# Altium integrated library Vishay Vitramon Ceramic Dipped Capacitor.IntLib: 3117 symbols (part 27 of 35)
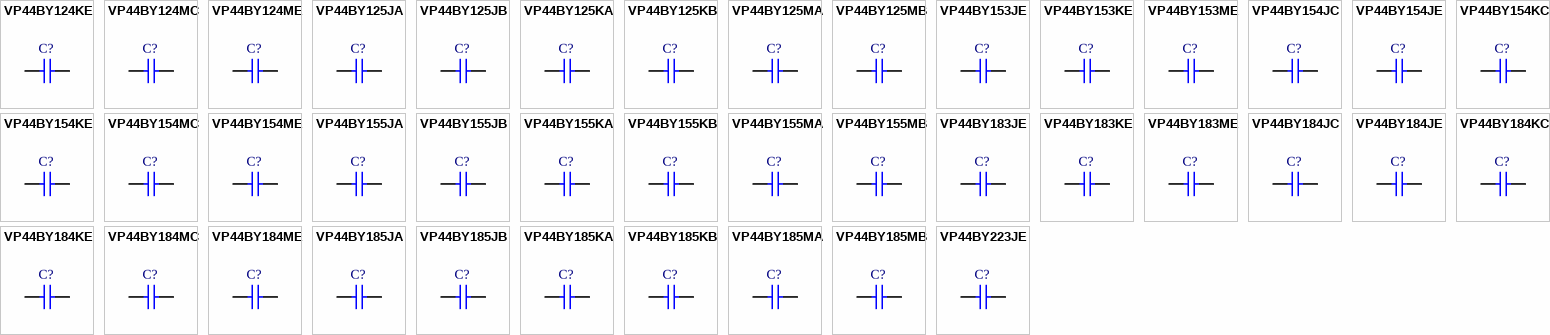
[diagram p103: symbols VP44BY124KE to VP44BY223JE]

## VP44BY153KE
designator C?
Dipped Radial Multilayer Ceramic Capacitor X7R: 15nF, 500V; Published: 17-Dec-2003; DatasheetDocument: 2-Jan-2002; PackageDocument: 2-Jan-2002; PackageReference: VP44-3.2; Publisher: Altium Limited; ComponentLink1Description: Manufacturer Link; ComponentLink1URL: http://www.vishay.com/; Value: 15nF
footprint VP44-3.2 (Capacitor, Ceramic, Thru-Hole, Dipped Radial; Body 7.6 x 3.2 mm (WxT) Pin Spacing 5.08 mm (typ))
simulation model CAP (Capacitor)
signal-integrity model Cap
pins: 1, 2

## VP44BY153ME
designator C?
Dipped Radial Multilayer Ceramic Capacitor X7R: 15nF, 500V; Published: 17-Dec-2003; DatasheetDocument: 2-Jan-2002; PackageDocument: 2-Jan-2002; PackageReference: VP44-3.2; Publisher: Altium Limited; ComponentLink1Description: Manufacturer Link; ComponentLink1URL: http://www.vishay.com/; Value: 15nF
footprint VP44-3.2 (Capacitor, Ceramic, Thru-Hole, Dipped Radial; Body 7.6 x 3.2 mm (WxT) Pin Spacing 5.08 mm (typ))
simulation model CAP (Capacitor)
signal-integrity model Cap
pins: 1, 2

## VP44BY154JC
designator C?
Dipped Radial Multilayer Ceramic Capacitor X7R: 150nF, 200V; Published: 17-Dec-2003; DatasheetDocument: 2-Jan-2002; PackageDocument: 2-Jan-2002; PackageReference: VP44-3.2; Publisher: Altium Limited; ComponentLink1Description: Manufacturer Link; ComponentLink1URL: http://www.vishay.com/; Value: 150nF
footprint VP44-3.2 (Capacitor, Ceramic, Thru-Hole, Dipped Radial; Body 7.6 x 3.2 mm (WxT) Pin Spacing 5.08 mm (typ))
simulation model CAP (Capacitor)
signal-integrity model Cap
pins: 1, 2

## VP44BY154JE
designator C?
Dipped Radial Multilayer Ceramic Capacitor X7R: 150nF, 500V; Published: 17-Dec-2003; DatasheetDocument: 2-Jan-2002; PackageDocument: 2-Jan-2002; PackageReference: VP44-5.0; Publisher: Altium Limited; ComponentLink1Description: Manufacturer Link; ComponentLink1URL: http://www.vishay.com/; Value: 150nF
footprint VP44-5.0 (Capacitor, Ceramic, Thru-Hole, Dipped Radial; Body 7.6 x 5 mm (WxT) Pin Spacing 5.08 mm (typ))
simulation model CAP (Capacitor)
signal-integrity model Cap
pins: 1, 2

## VP44BY154KC
designator C?
Dipped Radial Multilayer Ceramic Capacitor X7R: 150nF, 200V; Published: 17-Dec-2003; DatasheetDocument: 2-Jan-2002; PackageDocument: 2-Jan-2002; PackageReference: VP44-3.2; Publisher: Altium Limited; ComponentLink1Description: Manufacturer Link; ComponentLink1URL: http://www.vishay.com/; Value: 150nF
footprint VP44-3.2 (Capacitor, Ceramic, Thru-Hole, Dipped Radial; Body 7.6 x 3.2 mm (WxT) Pin Spacing 5.08 mm (typ))
simulation model CAP (Capacitor)
signal-integrity model Cap
pins: 1, 2

## VP44BY154KE
designator C?
Dipped Radial Multilayer Ceramic Capacitor X7R: 150nF, 500V; Published: 17-Dec-2003; DatasheetDocument: 2-Jan-2002; PackageDocument: 2-Jan-2002; PackageReference: VP44-5.0; Publisher: Altium Limited; ComponentLink1Description: Manufacturer Link; ComponentLink1URL: http://www.vishay.com/; Value: 150nF
footprint VP44-5.0 (Capacitor, Ceramic, Thru-Hole, Dipped Radial; Body 7.6 x 5 mm (WxT) Pin Spacing 5.08 mm (typ))
simulation model CAP (Capacitor)
signal-integrity model Cap
pins: 1, 2

## VP44BY154MC
designator C?
Dipped Radial Multilayer Ceramic Capacitor X7R: 150nF, 200V; Published: 17-Dec-2003; DatasheetDocument: 2-Jan-2002; PackageDocument: 2-Jan-2002; PackageReference: VP44-3.2; Publisher: Altium Limited; ComponentLink1Description: Manufacturer Link; ComponentLink1URL: http://www.vishay.com/; Value: 150nF
footprint VP44-3.2 (Capacitor, Ceramic, Thru-Hole, Dipped Radial; Body 7.6 x 3.2 mm (WxT) Pin Spacing 5.08 mm (typ))
simulation model CAP (Capacitor)
signal-integrity model Cap
pins: 1, 2

## VP44BY154ME
designator C?
Dipped Radial Multilayer Ceramic Capacitor X7R: 150nF, 500V; Published: 17-Dec-2003; DatasheetDocument: 2-Jan-2002; PackageDocument: 2-Jan-2002; PackageReference: VP44-5.0; Publisher: Altium Limited; ComponentLink1Description: Manufacturer Link; ComponentLink1URL: http://www.vishay.com/; Value: 150nF
footprint VP44-5.0 (Capacitor, Ceramic, Thru-Hole, Dipped Radial; Body 7.6 x 5 mm (WxT) Pin Spacing 5.08 mm (typ))
simulation model CAP (Capacitor)
signal-integrity model Cap
pins: 1, 2

## VP44BY155JA
designator C?
Dipped Radial Multilayer Ceramic Capacitor X7R: 1.5uF, 50/63V; Published: 17-Dec-2003; DatasheetDocument: 4-Feb-2002; PackageDocument: 4-Feb-2002; PackageReference: VP44-5.0; Publisher: Altium Limited; ComponentLink1Description: Manufacturer Link; ComponentLink1URL: http://www.vishay.com/; Value: 1.5uF
footprint VP44-5.0 (Capacitor, Ceramic, Thru-Hole, Dipped Radial; Body 7.6 x 5 mm (WxT) Pin Spacing 5.08 mm (typ))
simulation model CAP (Capacitor)
signal-integrity model Cap
pins: 1, 2

## VP44BY155JB
designator C?
Dipped Radial Multilayer Ceramic Capacitor X7R: 1.5uF, 100V; Published: 17-Dec-2003; DatasheetDocument: 4-Feb-2002; PackageDocument: 4-Feb-2002; PackageReference: VP44-5.0; Publisher: Altium Limited; ComponentLink1Description: Manufacturer Link; ComponentLink1URL: http://www.vishay.com/; Value: 1.5uF
footprint VP44-5.0 (Capacitor, Ceramic, Thru-Hole, Dipped Radial; Body 7.6 x 5 mm (WxT) Pin Spacing 5.08 mm (typ))
simulation model CAP (Capacitor)
signal-integrity model Cap
pins: 1, 2

## VP44BY155KA
designator C?
Dipped Radial Multilayer Ceramic Capacitor X7R: 1.5uF, 50/63V; Published: 17-Dec-2003; DatasheetDocument: 4-Feb-2002; PackageDocument: 4-Feb-2002; PackageReference: VP44-5.0; Publisher: Altium Limited; ComponentLink1Description: Manufacturer Link; ComponentLink1URL: http://www.vishay.com/; Value: 1.5uF
footprint VP44-5.0 (Capacitor, Ceramic, Thru-Hole, Dipped Radial; Body 7.6 x 5 mm (WxT) Pin Spacing 5.08 mm (typ))
simulation model CAP (Capacitor)
signal-integrity model Cap
pins: 1, 2

## VP44BY155KB
designator C?
Dipped Radial Multilayer Ceramic Capacitor X7R: 1.5uF, 100V; Published: 17-Dec-2003; DatasheetDocument: 4-Feb-2002; PackageDocument: 4-Feb-2002; PackageReference: VP44-5.0; Publisher: Altium Limited; ComponentLink1Description: Manufacturer Link; ComponentLink1URL: http://www.vishay.com/; Value: 1.5uF
footprint VP44-5.0 (Capacitor, Ceramic, Thru-Hole, Dipped Radial; Body 7.6 x 5 mm (WxT) Pin Spacing 5.08 mm (typ))
simulation model CAP (Capacitor)
signal-integrity model Cap
pins: 1, 2

## VP44BY155MA
designator C?
Dipped Radial Multilayer Ceramic Capacitor X7R: 1.5uF, 50/63V; Published: 17-Dec-2003; DatasheetDocument: 4-Feb-2002; PackageDocument: 4-Feb-2002; PackageReference: VP44-5.0; Publisher: Altium Limited; ComponentLink1Description: Manufacturer Link; ComponentLink1URL: http://www.vishay.com/; Value: 1.5uF
footprint VP44-5.0 (Capacitor, Ceramic, Thru-Hole, Dipped Radial; Body 7.6 x 5 mm (WxT) Pin Spacing 5.08 mm (typ))
simulation model CAP (Capacitor)
signal-integrity model Cap
pins: 1, 2

## VP44BY155MB
designator C?
Dipped Radial Multilayer Ceramic Capacitor X7R: 1.5uF, 100V; Published: 17-Dec-2003; DatasheetDocument: 4-Feb-2002; PackageDocument: 4-Feb-2002; PackageReference: VP44-5.0; Publisher: Altium Limited; ComponentLink1Description: Manufacturer Link; ComponentLink1URL: http://www.vishay.com/; Value: 1.5uF
footprint VP44-5.0 (Capacitor, Ceramic, Thru-Hole, Dipped Radial; Body 7.6 x 5 mm (WxT) Pin Spacing 5.08 mm (typ))
simulation model CAP (Capacitor)
signal-integrity model Cap
pins: 1, 2

## VP44BY183JE
designator C?
Dipped Radial Multilayer Ceramic Capacitor X7R: 18nF, 500V; Published: 17-Dec-2003; DatasheetDocument: 2-Jan-2002; PackageDocument: 2-Jan-2002; PackageReference: VP44-3.2; Publisher: Altium Limited; ComponentLink1Description: Manufacturer Link; ComponentLink1URL: http://www.vishay.com/; Value: 18nF
footprint VP44-3.2 (Capacitor, Ceramic, Thru-Hole, Dipped Radial; Body 7.6 x 3.2 mm (WxT) Pin Spacing 5.08 mm (typ))
simulation model CAP (Capacitor)
signal-integrity model Cap
pins: 1, 2

## VP44BY183KE
designator C?
Dipped Radial Multilayer Ceramic Capacitor X7R: 18nF, 500V; Published: 17-Dec-2003; DatasheetDocument: 2-Jan-2002; PackageDocument: 2-Jan-2002; PackageReference: VP44-3.2; Publisher: Altium Limited; ComponentLink1Description: Manufacturer Link; ComponentLink1URL: http://www.vishay.com/; Value: 18nF
footprint VP44-3.2 (Capacitor, Ceramic, Thru-Hole, Dipped Radial; Body 7.6 x 3.2 mm (WxT) Pin Spacing 5.08 mm (typ))
simulation model CAP (Capacitor)
signal-integrity model Cap
pins: 1, 2

## VP44BY183ME
designator C?
Dipped Radial Multilayer Ceramic Capacitor X7R: 18nF, 500V; Published: 17-Dec-2003; DatasheetDocument: 2-Jan-2002; PackageDocument: 2-Jan-2002; PackageReference: VP44-3.2; Publisher: Altium Limited; ComponentLink1Description: Manufacturer Link; ComponentLink1URL: http://www.vishay.com/; Value: 18nF
footprint VP44-3.2 (Capacitor, Ceramic, Thru-Hole, Dipped Radial; Body 7.6 x 3.2 mm (WxT) Pin Spacing 5.08 mm (typ))
simulation model CAP (Capacitor)
signal-integrity model Cap
pins: 1, 2

## VP44BY184JC
designator C?
Dipped Radial Multilayer Ceramic Capacitor X7R: 180nF, 200V; Published: 17-Dec-2003; DatasheetDocument: 2-Jan-2002; PackageDocument: 2-Jan-2002; PackageReference: VP44-3.2; Publisher: Altium Limited; ComponentLink1Description: Manufacturer Link; ComponentLink1URL: http://www.vishay.com/; Value: 180nF
footprint VP44-3.2 (Capacitor, Ceramic, Thru-Hole, Dipped Radial; Body 7.6 x 3.2 mm (WxT) Pin Spacing 5.08 mm (typ))
simulation model CAP (Capacitor)
signal-integrity model Cap
pins: 1, 2

## VP44BY184JE
designator C?
Dipped Radial Multilayer Ceramic Capacitor X7R: 180nF, 500V; Published: 17-Dec-2003; DatasheetDocument: 2-Jan-2002; PackageDocument: 2-Jan-2002; PackageReference: VP44-5.0; Publisher: Altium Limited; ComponentLink1Description: Manufacturer Link; ComponentLink1URL: http://www.vishay.com/; Value: 180nF
footprint VP44-5.0 (Capacitor, Ceramic, Thru-Hole, Dipped Radial; Body 7.6 x 5 mm (WxT) Pin Spacing 5.08 mm (typ))
simulation model CAP (Capacitor)
signal-integrity model Cap
pins: 1, 2

## VP44BY184KC
designator C?
Dipped Radial Multilayer Ceramic Capacitor X7R: 180nF, 200V; Published: 17-Dec-2003; DatasheetDocument: 2-Jan-2002; PackageDocument: 2-Jan-2002; PackageReference: VP44-3.2; Publisher: Altium Limited; ComponentLink1Description: Manufacturer Link; ComponentLink1URL: http://www.vishay.com/; Value: 180nF
footprint VP44-3.2 (Capacitor, Ceramic, Thru-Hole, Dipped Radial; Body 7.6 x 3.2 mm (WxT) Pin Spacing 5.08 mm (typ))
simulation model CAP (Capacitor)
signal-integrity model Cap
pins: 1, 2

## VP44BY184KE
designator C?
Dipped Radial Multilayer Ceramic Capacitor X7R: 180nF, 500V; Published: 17-Dec-2003; DatasheetDocument: 2-Jan-2002; PackageDocument: 2-Jan-2002; PackageReference: VP44-5.0; Publisher: Altium Limited; ComponentLink1Description: Manufacturer Link; ComponentLink1URL: http://www.vishay.com/; Value: 180nF
footprint VP44-5.0 (Capacitor, Ceramic, Thru-Hole, Dipped Radial; Body 7.6 x 5 mm (WxT) Pin Spacing 5.08 mm (typ))
simulation model CAP (Capacitor)
signal-integrity model Cap
pins: 1, 2

## VP44BY184MC
designator C?
Dipped Radial Multilayer Ceramic Capacitor X7R: 180nF, 200V; Published: 17-Dec-2003; DatasheetDocument: 2-Jan-2002; PackageDocument: 2-Jan-2002; PackageReference: VP44-3.2; Publisher: Altium Limited; ComponentLink1Description: Manufacturer Link; ComponentLink1URL: http://www.vishay.com/; Value: 180nF
footprint VP44-3.2 (Capacitor, Ceramic, Thru-Hole, Dipped Radial; Body 7.6 x 3.2 mm (WxT) Pin Spacing 5.08 mm (typ))
simulation model CAP (Capacitor)
signal-integrity model Cap
pins: 1, 2

## VP44BY184ME
designator C?
Dipped Radial Multilayer Ceramic Capacitor X7R: 180nF, 500V; Published: 17-Dec-2003; DatasheetDocument: 2-Jan-2002; PackageDocument: 2-Jan-2002; PackageReference: VP44-5.0; Publisher: Altium Limited; ComponentLink1Description: Manufacturer Link; ComponentLink1URL: http://www.vishay.com/; Value: 180nF
footprint VP44-5.0 (Capacitor, Ceramic, Thru-Hole, Dipped Radial; Body 7.6 x 5 mm (WxT) Pin Spacing 5.08 mm (typ))
simulation model CAP (Capacitor)
signal-integrity model Cap
pins: 1, 2

## VP44BY185JA
designator C?
Dipped Radial Multilayer Ceramic Capacitor X7R: 1.8uF, 50/63V; Published: 17-Dec-2003; DatasheetDocument: 4-Feb-2002; PackageDocument: 4-Feb-2002; PackageReference: VP44-5.0; Publisher: Altium Limited; ComponentLink1Description: Manufacturer Link; ComponentLink1URL: http://www.vishay.com/; Value: 1.8uF
footprint VP44-5.0 (Capacitor, Ceramic, Thru-Hole, Dipped Radial; Body 7.6 x 5 mm (WxT) Pin Spacing 5.08 mm (typ))
simulation model CAP (Capacitor)
signal-integrity model Cap
pins: 1, 2

## VP44BY185JB
designator C?
Dipped Radial Multilayer Ceramic Capacitor X7R: 1.8uF, 100V; Published: 17-Dec-2003; DatasheetDocument: 4-Feb-2002; PackageDocument: 4-Feb-2002; PackageReference: VP44-5.0; Publisher: Altium Limited; ComponentLink1Description: Manufacturer Link; ComponentLink1URL: http://www.vishay.com/; Value: 1.8uF
footprint VP44-5.0 (Capacitor, Ceramic, Thru-Hole, Dipped Radial; Body 7.6 x 5 mm (WxT) Pin Spacing 5.08 mm (typ))
simulation model CAP (Capacitor)
signal-integrity model Cap
pins: 1, 2

## VP44BY185KA
designator C?
Dipped Radial Multilayer Ceramic Capacitor X7R: 1.8uF, 50/63V; Published: 17-Dec-2003; DatasheetDocument: 4-Feb-2002; PackageDocument: 4-Feb-2002; PackageReference: VP44-5.0; Publisher: Altium Limited; ComponentLink1Description: Manufacturer Link; ComponentLink1URL: http://www.vishay.com/; Value: 1.8uF
footprint VP44-5.0 (Capacitor, Ceramic, Thru-Hole, Dipped Radial; Body 7.6 x 5 mm (WxT) Pin Spacing 5.08 mm (typ))
simulation model CAP (Capacitor)
signal-integrity model Cap
pins: 1, 2

## VP44BY185KB
designator C?
Dipped Radial Multilayer Ceramic Capacitor X7R: 1.8uF, 100V; Published: 17-Dec-2003; DatasheetDocument: 4-Feb-2002; PackageDocument: 4-Feb-2002; PackageReference: VP44-5.0; Publisher: Altium Limited; ComponentLink1Description: Manufacturer Link; ComponentLink1URL: http://www.vishay.com/; Value: 1.8uF
footprint VP44-5.0 (Capacitor, Ceramic, Thru-Hole, Dipped Radial; Body 7.6 x 5 mm (WxT) Pin Spacing 5.08 mm (typ))
simulation model CAP (Capacitor)
signal-integrity model Cap
pins: 1, 2

## VP44BY185MA
designator C?
Dipped Radial Multilayer Ceramic Capacitor X7R: 1.8uF, 50/63V; Published: 17-Dec-2003; DatasheetDocument: 4-Feb-2002; PackageDocument: 4-Feb-2002; PackageReference: VP44-5.0; Publisher: Altium Limited; ComponentLink1Description: Manufacturer Link; ComponentLink1URL: http://www.vishay.com/; Value: 1.8uF
footprint VP44-5.0 (Capacitor, Ceramic, Thru-Hole, Dipped Radial; Body 7.6 x 5 mm (WxT) Pin Spacing 5.08 mm (typ))
simulation model CAP (Capacitor)
signal-integrity model Cap
pins: 1, 2

## VP44BY185MB
designator C?
Dipped Radial Multilayer Ceramic Capacitor X7R: 1.8uF, 100V; Published: 17-Dec-2003; DatasheetDocument: 4-Feb-2002; PackageDocument: 4-Feb-2002; PackageReference: VP44-5.0; Publisher: Altium Limited; ComponentLink1Description: Manufacturer Link; ComponentLink1URL: http://www.vishay.com/; Value: 1.8uF
footprint VP44-5.0 (Capacitor, Ceramic, Thru-Hole, Dipped Radial; Body 7.6 x 5 mm (WxT) Pin Spacing 5.08 mm (typ))
simulation model CAP (Capacitor)
signal-integrity model Cap
pins: 1, 2

## VP44BY223JE
designator C?
Dipped Radial Multilayer Ceramic Capacitor X7R: 22nF, 500V; Published: 17-Dec-2003; DatasheetDocument: 2-Jan-2002; PackageDocument: 2-Jan-2002; PackageReference: VP44-3.2; Publisher: Altium Limited; ComponentLink1Description: Manufacturer Link; ComponentLink1URL: http://www.vishay.com/; Value: 22nF
footprint VP44-3.2 (Capacitor, Ceramic, Thru-Hole, Dipped Radial; Body 7.6 x 3.2 mm (WxT) Pin Spacing 5.08 mm (typ))
simulation model CAP (Capacitor)
signal-integrity model Cap
pins: 1, 2

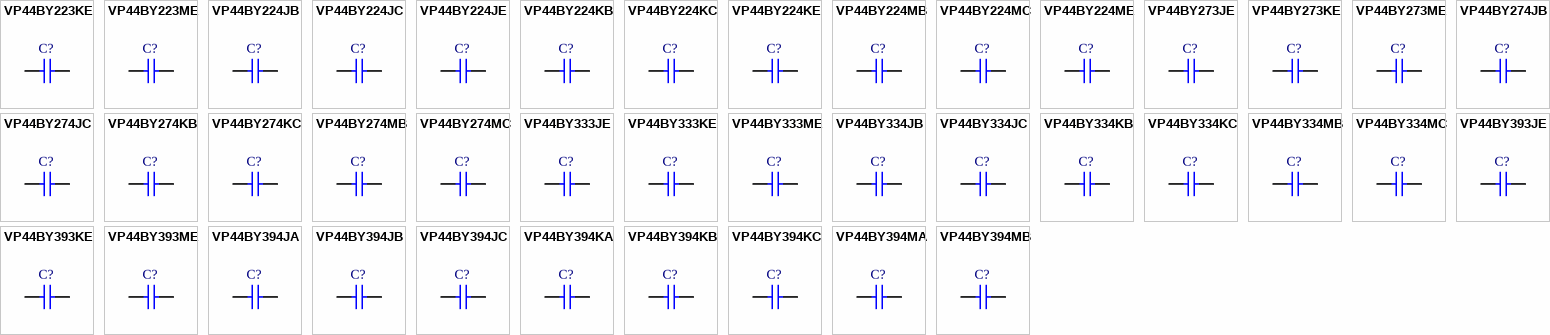
[diagram p59: symbols VP44BY223KE to VP44BY394MB]

## VP44BY223KE
designator C?
Dipped Radial Multilayer Ceramic Capacitor X7R: 22nF, 500V; Published: 17-Dec-2003; DatasheetDocument: 2-Jan-2002; PackageDocument: 2-Jan-2002; PackageReference: VP44-3.2; Publisher: Altium Limited; ComponentLink1Description: Manufacturer Link; ComponentLink1URL: http://www.vishay.com/; Value: 22nF
footprint VP44-3.2 (Capacitor, Ceramic, Thru-Hole, Dipped Radial; Body 7.6 x 3.2 mm (WxT) Pin Spacing 5.08 mm (typ))
simulation model CAP (Capacitor)
signal-integrity model Cap
pins: 1, 2

## VP44BY223ME
designator C?
Dipped Radial Multilayer Ceramic Capacitor X7R: 22nF, 500V; Published: 17-Dec-2003; DatasheetDocument: 2-Jan-2002; PackageDocument: 2-Jan-2002; PackageReference: VP44-3.2; Publisher: Altium Limited; ComponentLink1Description: Manufacturer Link; ComponentLink1URL: http://www.vishay.com/; Value: 22nF
footprint VP44-3.2 (Capacitor, Ceramic, Thru-Hole, Dipped Radial; Body 7.6 x 3.2 mm (WxT) Pin Spacing 5.08 mm (typ))
simulation model CAP (Capacitor)
signal-integrity model Cap
pins: 1, 2

## VP44BY224JB
designator C?
Dipped Radial Multilayer Ceramic Capacitor X7R: 220nF, 100V; Published: 17-Dec-2003; DatasheetDocument: 4-Feb-2002; PackageDocument: 4-Feb-2002; PackageReference: VP44-2.5; Publisher: Altium Limited; ComponentLink1Description: Manufacturer Link; ComponentLink1URL: http://www.vishay.com/; Value: 220nF
footprint VP44-2.5 (Capacitor, Ceramic, Thru-Hole, Dipped Radial; Body 7.6 x 2.5 mm (WxT) Pin Spacing 5.08 mm (typ))
simulation model CAP (Capacitor)
signal-integrity model Cap
pins: 1, 2

## VP44BY224JC
designator C?
Dipped Radial Multilayer Ceramic Capacitor X7R: 220nF, 200V; Published: 17-Dec-2003; DatasheetDocument: 2-Jan-2002; PackageDocument: 2-Jan-2002; PackageReference: VP44-3.2; Publisher: Altium Limited; ComponentLink1Description: Manufacturer Link; ComponentLink1URL: http://www.vishay.com/; Value: 220nF
footprint VP44-3.2 (Capacitor, Ceramic, Thru-Hole, Dipped Radial; Body 7.6 x 3.2 mm (WxT) Pin Spacing 5.08 mm (typ))
simulation model CAP (Capacitor)
signal-integrity model Cap
pins: 1, 2

## VP44BY224JE
designator C?
Dipped Radial Multilayer Ceramic Capacitor X7R: 220nF, 500V; Published: 17-Dec-2003; DatasheetDocument: 2-Jan-2002; PackageDocument: 2-Jan-2002; PackageReference: VP44-5.0; Publisher: Altium Limited; ComponentLink1Description: Manufacturer Link; ComponentLink1URL: http://www.vishay.com/; Value: 220nF
footprint VP44-5.0 (Capacitor, Ceramic, Thru-Hole, Dipped Radial; Body 7.6 x 5 mm (WxT) Pin Spacing 5.08 mm (typ))
simulation model CAP (Capacitor)
signal-integrity model Cap
pins: 1, 2

## VP44BY224KB
designator C?
Dipped Radial Multilayer Ceramic Capacitor X7R: 220nF, 100V; Published: 17-Dec-2003; DatasheetDocument: 4-Feb-2002; PackageDocument: 4-Feb-2002; PackageReference: VP44-2.5; Publisher: Altium Limited; ComponentLink1Description: Manufacturer Link; ComponentLink1URL: http://www.vishay.com/; Value: 220nF
footprint VP44-2.5 (Capacitor, Ceramic, Thru-Hole, Dipped Radial; Body 7.6 x 2.5 mm (WxT) Pin Spacing 5.08 mm (typ))
simulation model CAP (Capacitor)
signal-integrity model Cap
pins: 1, 2

## VP44BY224KC
designator C?
Dipped Radial Multilayer Ceramic Capacitor X7R: 220nF, 200V; Published: 17-Dec-2003; DatasheetDocument: 2-Jan-2002; PackageDocument: 2-Jan-2002; PackageReference: VP44-3.2; Publisher: Altium Limited; ComponentLink1Description: Manufacturer Link; ComponentLink1URL: http://www.vishay.com/; Value: 220nF
footprint VP44-3.2 (Capacitor, Ceramic, Thru-Hole, Dipped Radial; Body 7.6 x 3.2 mm (WxT) Pin Spacing 5.08 mm (typ))
simulation model CAP (Capacitor)
signal-integrity model Cap
pins: 1, 2

## VP44BY224KE
designator C?
Dipped Radial Multilayer Ceramic Capacitor X7R: 220nF, 500V; Published: 17-Dec-2003; DatasheetDocument: 2-Jan-2002; PackageDocument: 2-Jan-2002; PackageReference: VP44-5.0; Publisher: Altium Limited; ComponentLink1Description: Manufacturer Link; ComponentLink1URL: http://www.vishay.com/; Value: 220nF
footprint VP44-5.0 (Capacitor, Ceramic, Thru-Hole, Dipped Radial; Body 7.6 x 5 mm (WxT) Pin Spacing 5.08 mm (typ))
simulation model CAP (Capacitor)
signal-integrity model Cap
pins: 1, 2

## VP44BY224MB
designator C?
Dipped Radial Multilayer Ceramic Capacitor X7R: 220nF, 100V; Published: 17-Dec-2003; DatasheetDocument: 4-Feb-2002; PackageDocument: 4-Feb-2002; PackageReference: VP44-2.5; Publisher: Altium Limited; ComponentLink1Description: Manufacturer Link; ComponentLink1URL: http://www.vishay.com/; Value: 220nF
footprint VP44-2.5 (Capacitor, Ceramic, Thru-Hole, Dipped Radial; Body 7.6 x 2.5 mm (WxT) Pin Spacing 5.08 mm (typ))
simulation model CAP (Capacitor)
signal-integrity model Cap
pins: 1, 2

## VP44BY224MC
designator C?
Dipped Radial Multilayer Ceramic Capacitor X7R: 220nF, 200V; Published: 17-Dec-2003; DatasheetDocument: 2-Jan-2002; PackageDocument: 2-Jan-2002; PackageReference: VP44-3.2; Publisher: Altium Limited; ComponentLink1Description: Manufacturer Link; ComponentLink1URL: http://www.vishay.com/; Value: 220nF
footprint VP44-3.2 (Capacitor, Ceramic, Thru-Hole, Dipped Radial; Body 7.6 x 3.2 mm (WxT) Pin Spacing 5.08 mm (typ))
simulation model CAP (Capacitor)
signal-integrity model Cap
pins: 1, 2

## VP44BY224ME
designator C?
Dipped Radial Multilayer Ceramic Capacitor X7R: 220nF, 500V; Published: 17-Dec-2003; DatasheetDocument: 2-Jan-2002; PackageDocument: 2-Jan-2002; PackageReference: VP44-5.0; Publisher: Altium Limited; ComponentLink1Description: Manufacturer Link; ComponentLink1URL: http://www.vishay.com/; Value: 220nF
footprint VP44-5.0 (Capacitor, Ceramic, Thru-Hole, Dipped Radial; Body 7.6 x 5 mm (WxT) Pin Spacing 5.08 mm (typ))
simulation model CAP (Capacitor)
signal-integrity model Cap
pins: 1, 2

## VP44BY273JE
designator C?
Dipped Radial Multilayer Ceramic Capacitor X7R: 27nF, 500V; Published: 17-Dec-2003; DatasheetDocument: 2-Jan-2002; PackageDocument: 2-Jan-2002; PackageReference: VP44-3.2; Publisher: Altium Limited; ComponentLink1Description: Manufacturer Link; ComponentLink1URL: http://www.vishay.com/; Value: 27nF
footprint VP44-3.2 (Capacitor, Ceramic, Thru-Hole, Dipped Radial; Body 7.6 x 3.2 mm (WxT) Pin Spacing 5.08 mm (typ))
simulation model CAP (Capacitor)
signal-integrity model Cap
pins: 1, 2

## VP44BY273KE
designator C?
Dipped Radial Multilayer Ceramic Capacitor X7R: 27nF, 500V; Published: 17-Dec-2003; DatasheetDocument: 2-Jan-2002; PackageDocument: 2-Jan-2002; PackageReference: VP44-3.2; Publisher: Altium Limited; ComponentLink1Description: Manufacturer Link; ComponentLink1URL: http://www.vishay.com/; Value: 27nF
footprint VP44-3.2 (Capacitor, Ceramic, Thru-Hole, Dipped Radial; Body 7.6 x 3.2 mm (WxT) Pin Spacing 5.08 mm (typ))
simulation model CAP (Capacitor)
signal-integrity model Cap
pins: 1, 2

## VP44BY273ME
designator C?
Dipped Radial Multilayer Ceramic Capacitor X7R: 27nF, 500V; Published: 17-Dec-2003; DatasheetDocument: 2-Jan-2002; PackageDocument: 2-Jan-2002; PackageReference: VP44-3.2; Publisher: Altium Limited; ComponentLink1Description: Manufacturer Link; ComponentLink1URL: http://www.vishay.com/; Value: 27nF
footprint VP44-3.2 (Capacitor, Ceramic, Thru-Hole, Dipped Radial; Body 7.6 x 3.2 mm (WxT) Pin Spacing 5.08 mm (typ))
simulation model CAP (Capacitor)
signal-integrity model Cap
pins: 1, 2

## VP44BY274JB
designator C?
Dipped Radial Multilayer Ceramic Capacitor X7R: 270nF, 100V; Published: 17-Dec-2003; DatasheetDocument: 4-Feb-2002; PackageDocument: 4-Feb-2002; PackageReference: VP44-2.5; Publisher: Altium Limited; ComponentLink1Description: Manufacturer Link; ComponentLink1URL: http://www.vishay.com/; Value: 270nF
footprint VP44-2.5 (Capacitor, Ceramic, Thru-Hole, Dipped Radial; Body 7.6 x 2.5 mm (WxT) Pin Spacing 5.08 mm (typ))
simulation model CAP (Capacitor)
signal-integrity model Cap
pins: 1, 2

## VP44BY274JC
designator C?
Dipped Radial Multilayer Ceramic Capacitor X7R: 270nF, 200V; Published: 17-Dec-2003; DatasheetDocument: 2-Jan-2002; PackageDocument: 2-Jan-2002; PackageReference: VP44-3.2; Publisher: Altium Limited; ComponentLink1Description: Manufacturer Link; ComponentLink1URL: http://www.vishay.com/; Value: 270nF
footprint VP44-3.2 (Capacitor, Ceramic, Thru-Hole, Dipped Radial; Body 7.6 x 3.2 mm (WxT) Pin Spacing 5.08 mm (typ))
simulation model CAP (Capacitor)
signal-integrity model Cap
pins: 1, 2

## VP44BY274KB
designator C?
Dipped Radial Multilayer Ceramic Capacitor X7R: 270nF, 100V; Published: 17-Dec-2003; DatasheetDocument: 4-Feb-2002; PackageDocument: 4-Feb-2002; PackageReference: VP44-2.5; Publisher: Altium Limited; ComponentLink1Description: Manufacturer Link; ComponentLink1URL: http://www.vishay.com/; Value: 270nF
footprint VP44-2.5 (Capacitor, Ceramic, Thru-Hole, Dipped Radial; Body 7.6 x 2.5 mm (WxT) Pin Spacing 5.08 mm (typ))
simulation model CAP (Capacitor)
signal-integrity model Cap
pins: 1, 2

## VP44BY274KC
designator C?
Dipped Radial Multilayer Ceramic Capacitor X7R: 270nF, 200V; Published: 17-Dec-2003; DatasheetDocument: 2-Jan-2002; PackageDocument: 2-Jan-2002; PackageReference: VP44-3.2; Publisher: Altium Limited; ComponentLink1Description: Manufacturer Link; ComponentLink1URL: http://www.vishay.com/; Value: 270nF
footprint VP44-3.2 (Capacitor, Ceramic, Thru-Hole, Dipped Radial; Body 7.6 x 3.2 mm (WxT) Pin Spacing 5.08 mm (typ))
simulation model CAP (Capacitor)
signal-integrity model Cap
pins: 1, 2

## VP44BY274MB
designator C?
Dipped Radial Multilayer Ceramic Capacitor X7R: 270nF, 100V; Published: 17-Dec-2003; DatasheetDocument: 4-Feb-2002; PackageDocument: 4-Feb-2002; PackageReference: VP44-2.5; Publisher: Altium Limited; ComponentLink1Description: Manufacturer Link; ComponentLink1URL: http://www.vishay.com/; Value: 270nF
footprint VP44-2.5 (Capacitor, Ceramic, Thru-Hole, Dipped Radial; Body 7.6 x 2.5 mm (WxT) Pin Spacing 5.08 mm (typ))
simulation model CAP (Capacitor)
signal-integrity model Cap
pins: 1, 2

## VP44BY274MC
designator C?
Dipped Radial Multilayer Ceramic Capacitor X7R: 270nF, 200V; Published: 17-Dec-2003; DatasheetDocument: 2-Jan-2002; PackageDocument: 2-Jan-2002; PackageReference: VP44-3.2; Publisher: Altium Limited; ComponentLink1Description: Manufacturer Link; ComponentLink1URL: http://www.vishay.com/; Value: 270nF
footprint VP44-3.2 (Capacitor, Ceramic, Thru-Hole, Dipped Radial; Body 7.6 x 3.2 mm (WxT) Pin Spacing 5.08 mm (typ))
simulation model CAP (Capacitor)
signal-integrity model Cap
pins: 1, 2

## VP44BY333JE
designator C?
Dipped Radial Multilayer Ceramic Capacitor X7R: 33nF, 500V; Published: 17-Dec-2003; DatasheetDocument: 2-Jan-2002; PackageDocument: 2-Jan-2002; PackageReference: VP44-3.2; Publisher: Altium Limited; ComponentLink1Description: Manufacturer Link; ComponentLink1URL: http://www.vishay.com/; Value: 33nF
footprint VP44-3.2 (Capacitor, Ceramic, Thru-Hole, Dipped Radial; Body 7.6 x 3.2 mm (WxT) Pin Spacing 5.08 mm (typ))
simulation model CAP (Capacitor)
signal-integrity model Cap
pins: 1, 2

## VP44BY333KE
designator C?
Dipped Radial Multilayer Ceramic Capacitor X7R: 33nF, 500V; Published: 17-Dec-2003; DatasheetDocument: 2-Jan-2002; PackageDocument: 2-Jan-2002; PackageReference: VP44-3.2; Publisher: Altium Limited; ComponentLink1Description: Manufacturer Link; ComponentLink1URL: http://www.vishay.com/; Value: 33nF
footprint VP44-3.2 (Capacitor, Ceramic, Thru-Hole, Dipped Radial; Body 7.6 x 3.2 mm (WxT) Pin Spacing 5.08 mm (typ))
simulation model CAP (Capacitor)
signal-integrity model Cap
pins: 1, 2

## VP44BY333ME
designator C?
Dipped Radial Multilayer Ceramic Capacitor X7R: 33nF, 500V; Published: 17-Dec-2003; DatasheetDocument: 2-Jan-2002; PackageDocument: 2-Jan-2002; PackageReference: VP44-3.2; Publisher: Altium Limited; ComponentLink1Description: Manufacturer Link; ComponentLink1URL: http://www.vishay.com/; Value: 33nF
footprint VP44-3.2 (Capacitor, Ceramic, Thru-Hole, Dipped Radial; Body 7.6 x 3.2 mm (WxT) Pin Spacing 5.08 mm (typ))
simulation model CAP (Capacitor)
signal-integrity model Cap
pins: 1, 2

## VP44BY334JB
designator C?
Dipped Radial Multilayer Ceramic Capacitor X7R: 330nF, 100V; Published: 17-Dec-2003; DatasheetDocument: 4-Feb-2002; PackageDocument: 4-Feb-2002; PackageReference: VP44-2.5; Publisher: Altium Limited; ComponentLink1Description: Manufacturer Link; ComponentLink1URL: http://www.vishay.com/; Value: 330nF
footprint VP44-2.5 (Capacitor, Ceramic, Thru-Hole, Dipped Radial; Body 7.6 x 2.5 mm (WxT) Pin Spacing 5.08 mm (typ))
simulation model CAP (Capacitor)
signal-integrity model Cap
pins: 1, 2

## VP44BY334JC
designator C?
Dipped Radial Multilayer Ceramic Capacitor X7R: 330nF, 200V; Published: 17-Dec-2003; DatasheetDocument: 2-Jan-2002; PackageDocument: 2-Jan-2002; PackageReference: VP44-3.2; Publisher: Altium Limited; ComponentLink1Description: Manufacturer Link; ComponentLink1URL: http://www.vishay.com/; Value: 330nF
footprint VP44-3.2 (Capacitor, Ceramic, Thru-Hole, Dipped Radial; Body 7.6 x 3.2 mm (WxT) Pin Spacing 5.08 mm (typ))
simulation model CAP (Capacitor)
signal-integrity model Cap
pins: 1, 2

## VP44BY334KB
designator C?
Dipped Radial Multilayer Ceramic Capacitor X7R: 330nF, 100V; Published: 17-Dec-2003; DatasheetDocument: 4-Feb-2002; PackageDocument: 4-Feb-2002; PackageReference: VP44-2.5; Publisher: Altium Limited; ComponentLink1Description: Manufacturer Link; ComponentLink1URL: http://www.vishay.com/; Value: 330nF
footprint VP44-2.5 (Capacitor, Ceramic, Thru-Hole, Dipped Radial; Body 7.6 x 2.5 mm (WxT) Pin Spacing 5.08 mm (typ))
simulation model CAP (Capacitor)
signal-integrity model Cap
pins: 1, 2

## VP44BY334KC
designator C?
Dipped Radial Multilayer Ceramic Capacitor X7R: 330nF, 200V; Published: 17-Dec-2003; DatasheetDocument: 2-Jan-2002; PackageDocument: 2-Jan-2002; PackageReference: VP44-3.2; Publisher: Altium Limited; ComponentLink1Description: Manufacturer Link; ComponentLink1URL: http://www.vishay.com/; Value: 330nF
footprint VP44-3.2 (Capacitor, Ceramic, Thru-Hole, Dipped Radial; Body 7.6 x 3.2 mm (WxT) Pin Spacing 5.08 mm (typ))
simulation model CAP (Capacitor)
signal-integrity model Cap
pins: 1, 2

## VP44BY334MB
designator C?
Dipped Radial Multilayer Ceramic Capacitor X7R: 330nF, 100V; Published: 17-Dec-2003; DatasheetDocument: 4-Feb-2002; PackageDocument: 4-Feb-2002; PackageReference: VP44-2.5; Publisher: Altium Limited; ComponentLink1Description: Manufacturer Link; ComponentLink1URL: http://www.vishay.com/; Value: 330nF
footprint VP44-2.5 (Capacitor, Ceramic, Thru-Hole, Dipped Radial; Body 7.6 x 2.5 mm (WxT) Pin Spacing 5.08 mm (typ))
simulation model CAP (Capacitor)
signal-integrity model Cap
pins: 1, 2

## VP44BY334MC
designator C?
Dipped Radial Multilayer Ceramic Capacitor X7R: 330nF, 200V; Published: 17-Dec-2003; DatasheetDocument: 2-Jan-2002; PackageDocument: 2-Jan-2002; PackageReference: VP44-3.2; Publisher: Altium Limited; ComponentLink1Description: Manufacturer Link; ComponentLink1URL: http://www.vishay.com/; Value: 330nF
footprint VP44-3.2 (Capacitor, Ceramic, Thru-Hole, Dipped Radial; Body 7.6 x 3.2 mm (WxT) Pin Spacing 5.08 mm (typ))
simulation model CAP (Capacitor)
signal-integrity model Cap
pins: 1, 2

## VP44BY393JE
designator C?
Dipped Radial Multilayer Ceramic Capacitor X7R: 39nF, 500V; Published: 17-Dec-2003; DatasheetDocument: 2-Jan-2002; PackageDocument: 2-Jan-2002; PackageReference: VP44-3.2; Publisher: Altium Limited; ComponentLink1Description: Manufacturer Link; ComponentLink1URL: http://www.vishay.com/; Value: 39nF
footprint VP44-3.2 (Capacitor, Ceramic, Thru-Hole, Dipped Radial; Body 7.6 x 3.2 mm (WxT) Pin Spacing 5.08 mm (typ))
simulation model CAP (Capacitor)
signal-integrity model Cap
pins: 1, 2

## VP44BY393KE
designator C?
Dipped Radial Multilayer Ceramic Capacitor X7R: 39nF, 500V; Published: 17-Dec-2003; DatasheetDocument: 2-Jan-2002; PackageDocument: 2-Jan-2002; PackageReference: VP44-3.2; Publisher: Altium Limited; ComponentLink1Description: Manufacturer Link; ComponentLink1URL: http://www.vishay.com/; Value: 39nF
footprint VP44-3.2 (Capacitor, Ceramic, Thru-Hole, Dipped Radial; Body 7.6 x 3.2 mm (WxT) Pin Spacing 5.08 mm (typ))
simulation model CAP (Capacitor)
signal-integrity model Cap
pins: 1, 2

## VP44BY393ME
designator C?
Dipped Radial Multilayer Ceramic Capacitor X7R: 39nF, 500V; Published: 17-Dec-2003; DatasheetDocument: 2-Jan-2002; PackageDocument: 2-Jan-2002; PackageReference: VP44-3.2; Publisher: Altium Limited; ComponentLink1Description: Manufacturer Link; ComponentLink1URL: http://www.vishay.com/; Value: 39nF
footprint VP44-3.2 (Capacitor, Ceramic, Thru-Hole, Dipped Radial; Body 7.6 x 3.2 mm (WxT) Pin Spacing 5.08 mm (typ))
simulation model CAP (Capacitor)
signal-integrity model Cap
pins: 1, 2

## VP44BY394JA
designator C?
Dipped Radial Multilayer Ceramic Capacitor X7R: 390nF, 50/63V; Published: 17-Dec-2003; DatasheetDocument: 4-Feb-2002; PackageDocument: 4-Feb-2002; PackageReference: VP44-2.5; Publisher: Altium Limited; ComponentLink1Description: Manufacturer Link; ComponentLink1URL: http://www.vishay.com/; Value: 390nF
footprint VP44-2.5 (Capacitor, Ceramic, Thru-Hole, Dipped Radial; Body 7.6 x 2.5 mm (WxT) Pin Spacing 5.08 mm (typ))
simulation model CAP (Capacitor)
signal-integrity model Cap
pins: 1, 2

## VP44BY394JB
designator C?
Dipped Radial Multilayer Ceramic Capacitor X7R: 390nF, 100V; Published: 17-Dec-2003; DatasheetDocument: 4-Feb-2002; PackageDocument: 4-Feb-2002; PackageReference: VP44-2.5; Publisher: Altium Limited; ComponentLink1Description: Manufacturer Link; ComponentLink1URL: http://www.vishay.com/; Value: 390nF
footprint VP44-2.5 (Capacitor, Ceramic, Thru-Hole, Dipped Radial; Body 7.6 x 2.5 mm (WxT) Pin Spacing 5.08 mm (typ))
simulation model CAP (Capacitor)
signal-integrity model Cap
pins: 1, 2

## VP44BY394JC
designator C?
Dipped Radial Multilayer Ceramic Capacitor X7R: 390nF, 200V; Published: 17-Dec-2003; DatasheetDocument: 2-Jan-2002; PackageDocument: 2-Jan-2002; PackageReference: VP44-5.0; Publisher: Altium Limited; ComponentLink1Description: Manufacturer Link; ComponentLink1URL: http://www.vishay.com/; Value: 390nF
footprint VP44-5.0 (Capacitor, Ceramic, Thru-Hole, Dipped Radial; Body 7.6 x 5 mm (WxT) Pin Spacing 5.08 mm (typ))
simulation model CAP (Capacitor)
signal-integrity model Cap
pins: 1, 2

## VP44BY394KA
designator C?
Dipped Radial Multilayer Ceramic Capacitor X7R: 390nF, 50/63V; Published: 17-Dec-2003; DatasheetDocument: 4-Feb-2002; PackageDocument: 4-Feb-2002; PackageReference: VP44-2.5; Publisher: Altium Limited; ComponentLink1Description: Manufacturer Link; ComponentLink1URL: http://www.vishay.com/; Value: 390nF
footprint VP44-2.5 (Capacitor, Ceramic, Thru-Hole, Dipped Radial; Body 7.6 x 2.5 mm (WxT) Pin Spacing 5.08 mm (typ))
simulation model CAP (Capacitor)
signal-integrity model Cap
pins: 1, 2

## VP44BY394KB
designator C?
Dipped Radial Multilayer Ceramic Capacitor X7R: 390nF, 100V; Published: 17-Dec-2003; DatasheetDocument: 4-Feb-2002; PackageDocument: 4-Feb-2002; PackageReference: VP44-2.5; Publisher: Altium Limited; ComponentLink1Description: Manufacturer Link; ComponentLink1URL: http://www.vishay.com/; Value: 390nF
footprint VP44-2.5 (Capacitor, Ceramic, Thru-Hole, Dipped Radial; Body 7.6 x 2.5 mm (WxT) Pin Spacing 5.08 mm (typ))
simulation model CAP (Capacitor)
signal-integrity model Cap
pins: 1, 2

## VP44BY394KC
designator C?
Dipped Radial Multilayer Ceramic Capacitor X7R: 390nF, 200V; Published: 17-Dec-2003; DatasheetDocument: 2-Jan-2002; PackageDocument: 2-Jan-2002; PackageReference: VP44-5.0; Publisher: Altium Limited; ComponentLink1Description: Manufacturer Link; ComponentLink1URL: http://www.vishay.com/; Value: 390nF
footprint VP44-5.0 (Capacitor, Ceramic, Thru-Hole, Dipped Radial; Body 7.6 x 5 mm (WxT) Pin Spacing 5.08 mm (typ))
simulation model CAP (Capacitor)
signal-integrity model Cap
pins: 1, 2

## VP44BY394MA
designator C?
Dipped Radial Multilayer Ceramic Capacitor X7R: 390nF, 50/63V; Published: 17-Dec-2003; DatasheetDocument: 4-Feb-2002; PackageDocument: 4-Feb-2002; PackageReference: VP44-2.5; Publisher: Altium Limited; ComponentLink1Description: Manufacturer Link; ComponentLink1URL: http://www.vishay.com/; Value: 390nF
footprint VP44-2.5 (Capacitor, Ceramic, Thru-Hole, Dipped Radial; Body 7.6 x 2.5 mm (WxT) Pin Spacing 5.08 mm (typ))
simulation model CAP (Capacitor)
signal-integrity model Cap
pins: 1, 2

## VP44BY394MB
designator C?
Dipped Radial Multilayer Ceramic Capacitor X7R: 390nF, 100V; Published: 17-Dec-2003; DatasheetDocument: 4-Feb-2002; PackageDocument: 4-Feb-2002; PackageReference: VP44-2.5; Publisher: Altium Limited; ComponentLink1Description: Manufacturer Link; ComponentLink1URL: http://www.vishay.com/; Value: 390nF
footprint VP44-2.5 (Capacitor, Ceramic, Thru-Hole, Dipped Radial; Body 7.6 x 2.5 mm (WxT) Pin Spacing 5.08 mm (typ))
simulation model CAP (Capacitor)
signal-integrity model Cap
pins: 1, 2

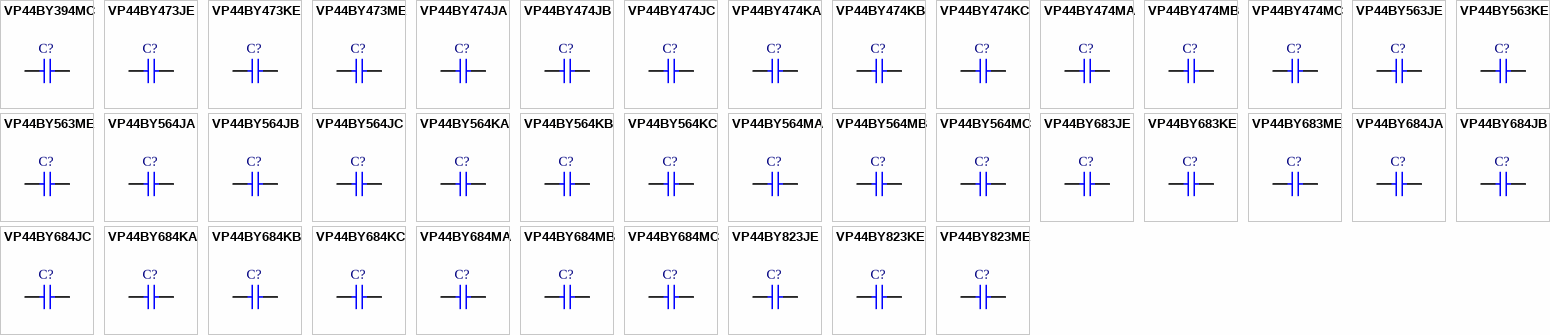
[diagram p60: symbols VP44BY394MC to VP44BY823ME]

## VP44BY394MC
designator C?
Dipped Radial Multilayer Ceramic Capacitor X7R: 390nF, 200V; Published: 17-Dec-2003; DatasheetDocument: 2-Jan-2002; PackageDocument: 2-Jan-2002; PackageReference: VP44-5.0; Publisher: Altium Limited; ComponentLink1Description: Manufacturer Link; ComponentLink1URL: http://www.vishay.com/; Value: 390nF
footprint VP44-5.0 (Capacitor, Ceramic, Thru-Hole, Dipped Radial; Body 7.6 x 5 mm (WxT) Pin Spacing 5.08 mm (typ))
simulation model CAP (Capacitor)
signal-integrity model Cap
pins: 1, 2

## VP44BY473JE
designator C?
Dipped Radial Multilayer Ceramic Capacitor X7R: 47nF, 500V; Published: 17-Dec-2003; DatasheetDocument: 2-Jan-2002; PackageDocument: 2-Jan-2002; PackageReference: VP44-3.2; Publisher: Altium Limited; ComponentLink1Description: Manufacturer Link; ComponentLink1URL: http://www.vishay.com/; Value: 47nF
footprint VP44-3.2 (Capacitor, Ceramic, Thru-Hole, Dipped Radial; Body 7.6 x 3.2 mm (WxT) Pin Spacing 5.08 mm (typ))
simulation model CAP (Capacitor)
signal-integrity model Cap
pins: 1, 2

## VP44BY473KE
designator C?
Dipped Radial Multilayer Ceramic Capacitor X7R: 47nF, 500V; Published: 17-Dec-2003; DatasheetDocument: 2-Jan-2002; PackageDocument: 2-Jan-2002; PackageReference: VP44-3.2; Publisher: Altium Limited; ComponentLink1Description: Manufacturer Link; ComponentLink1URL: http://www.vishay.com/; Value: 47nF
footprint VP44-3.2 (Capacitor, Ceramic, Thru-Hole, Dipped Radial; Body 7.6 x 3.2 mm (WxT) Pin Spacing 5.08 mm (typ))
simulation model CAP (Capacitor)
signal-integrity model Cap
pins: 1, 2

## VP44BY473ME
designator C?
Dipped Radial Multilayer Ceramic Capacitor X7R: 47nF, 500V; Published: 17-Dec-2003; DatasheetDocument: 2-Jan-2002; PackageDocument: 2-Jan-2002; PackageReference: VP44-3.2; Publisher: Altium Limited; ComponentLink1Description: Manufacturer Link; ComponentLink1URL: http://www.vishay.com/; Value: 47nF
footprint VP44-3.2 (Capacitor, Ceramic, Thru-Hole, Dipped Radial; Body 7.6 x 3.2 mm (WxT) Pin Spacing 5.08 mm (typ))
simulation model CAP (Capacitor)
signal-integrity model Cap
pins: 1, 2

## VP44BY474JA
designator C?
Dipped Radial Multilayer Ceramic Capacitor X7R: 470nF, 50/63V; Published: 17-Dec-2003; DatasheetDocument: 4-Feb-2002; PackageDocument: 4-Feb-2002; PackageReference: VP44-2.5; Publisher: Altium Limited; ComponentLink1Description: Manufacturer Link; ComponentLink1URL: http://www.vishay.com/; Value: 470nF
footprint VP44-2.5 (Capacitor, Ceramic, Thru-Hole, Dipped Radial; Body 7.6 x 2.5 mm (WxT) Pin Spacing 5.08 mm (typ))
simulation model CAP (Capacitor)
signal-integrity model Cap
pins: 1, 2

## VP44BY474JB
designator C?
Dipped Radial Multilayer Ceramic Capacitor X7R: 470nF, 100V; Published: 17-Dec-2003; DatasheetDocument: 4-Feb-2002; PackageDocument: 4-Feb-2002; PackageReference: VP44-2.5; Publisher: Altium Limited; ComponentLink1Description: Manufacturer Link; ComponentLink1URL: http://www.vishay.com/; Value: 470nF
footprint VP44-2.5 (Capacitor, Ceramic, Thru-Hole, Dipped Radial; Body 7.6 x 2.5 mm (WxT) Pin Spacing 5.08 mm (typ))
simulation model CAP (Capacitor)
signal-integrity model Cap
pins: 1, 2

## VP44BY474JC
designator C?
Dipped Radial Multilayer Ceramic Capacitor X7R: 470nF, 200V; Published: 17-Dec-2003; DatasheetDocument: 2-Jan-2002; PackageDocument: 2-Jan-2002; PackageReference: VP44-5.0; Publisher: Altium Limited; ComponentLink1Description: Manufacturer Link; ComponentLink1URL: http://www.vishay.com/; Value: 470nF
footprint VP44-5.0 (Capacitor, Ceramic, Thru-Hole, Dipped Radial; Body 7.6 x 5 mm (WxT) Pin Spacing 5.08 mm (typ))
simulation model CAP (Capacitor)
signal-integrity model Cap
pins: 1, 2

## VP44BY474KA
designator C?
Dipped Radial Multilayer Ceramic Capacitor X7R: 470nF, 50/63V; Published: 17-Dec-2003; DatasheetDocument: 4-Feb-2002; PackageDocument: 4-Feb-2002; PackageReference: VP44-2.5; Publisher: Altium Limited; ComponentLink1Description: Manufacturer Link; ComponentLink1URL: http://www.vishay.com/; Value: 470nF
footprint VP44-2.5 (Capacitor, Ceramic, Thru-Hole, Dipped Radial; Body 7.6 x 2.5 mm (WxT) Pin Spacing 5.08 mm (typ))
simulation model CAP (Capacitor)
signal-integrity model Cap
pins: 1, 2

## VP44BY474KB
designator C?
Dipped Radial Multilayer Ceramic Capacitor X7R: 470nF, 100V; Published: 17-Dec-2003; DatasheetDocument: 4-Feb-2002; PackageDocument: 4-Feb-2002; PackageReference: VP44-2.5; Publisher: Altium Limited; ComponentLink1Description: Manufacturer Link; ComponentLink1URL: http://www.vishay.com/; Value: 470nF
footprint VP44-2.5 (Capacitor, Ceramic, Thru-Hole, Dipped Radial; Body 7.6 x 2.5 mm (WxT) Pin Spacing 5.08 mm (typ))
simulation model CAP (Capacitor)
signal-integrity model Cap
pins: 1, 2

## VP44BY474KC
designator C?
Dipped Radial Multilayer Ceramic Capacitor X7R: 470nF, 200V; Published: 17-Dec-2003; DatasheetDocument: 2-Jan-2002; PackageDocument: 2-Jan-2002; PackageReference: VP44-5.0; Publisher: Altium Limited; ComponentLink1Description: Manufacturer Link; ComponentLink1URL: http://www.vishay.com/; Value: 470nF
footprint VP44-5.0 (Capacitor, Ceramic, Thru-Hole, Dipped Radial; Body 7.6 x 5 mm (WxT) Pin Spacing 5.08 mm (typ))
simulation model CAP (Capacitor)
signal-integrity model Cap
pins: 1, 2

## VP44BY474MA
designator C?
Dipped Radial Multilayer Ceramic Capacitor X7R: 470nF, 50/63V; Published: 17-Dec-2003; DatasheetDocument: 4-Feb-2002; PackageDocument: 4-Feb-2002; PackageReference: VP44-2.5; Publisher: Altium Limited; ComponentLink1Description: Manufacturer Link; ComponentLink1URL: http://www.vishay.com/; Value: 470nF
footprint VP44-2.5 (Capacitor, Ceramic, Thru-Hole, Dipped Radial; Body 7.6 x 2.5 mm (WxT) Pin Spacing 5.08 mm (typ))
simulation model CAP (Capacitor)
signal-integrity model Cap
pins: 1, 2

## VP44BY474MB
designator C?
Dipped Radial Multilayer Ceramic Capacitor X7R: 470nF, 100V; Published: 17-Dec-2003; DatasheetDocument: 4-Feb-2002; PackageDocument: 4-Feb-2002; PackageReference: VP44-2.5; Publisher: Altium Limited; ComponentLink1Description: Manufacturer Link; ComponentLink1URL: http://www.vishay.com/; Value: 470nF
footprint VP44-2.5 (Capacitor, Ceramic, Thru-Hole, Dipped Radial; Body 7.6 x 2.5 mm (WxT) Pin Spacing 5.08 mm (typ))
simulation model CAP (Capacitor)
signal-integrity model Cap
pins: 1, 2

## VP44BY474MC
designator C?
Dipped Radial Multilayer Ceramic Capacitor X7R: 470nF, 200V; Published: 17-Dec-2003; DatasheetDocument: 2-Jan-2002; PackageDocument: 2-Jan-2002; PackageReference: VP44-5.0; Publisher: Altium Limited; ComponentLink1Description: Manufacturer Link; ComponentLink1URL: http://www.vishay.com/; Value: 470nF
footprint VP44-5.0 (Capacitor, Ceramic, Thru-Hole, Dipped Radial; Body 7.6 x 5 mm (WxT) Pin Spacing 5.08 mm (typ))
simulation model CAP (Capacitor)
signal-integrity model Cap
pins: 1, 2

## VP44BY563JE
designator C?
Dipped Radial Multilayer Ceramic Capacitor X7R: 56nF, 500V; Published: 17-Dec-2003; DatasheetDocument: 2-Jan-2002; PackageDocument: 2-Jan-2002; PackageReference: VP44-3.2; Publisher: Altium Limited; ComponentLink1Description: Manufacturer Link; ComponentLink1URL: http://www.vishay.com/; Value: 56nF
footprint VP44-3.2 (Capacitor, Ceramic, Thru-Hole, Dipped Radial; Body 7.6 x 3.2 mm (WxT) Pin Spacing 5.08 mm (typ))
simulation model CAP (Capacitor)
signal-integrity model Cap
pins: 1, 2

## VP44BY563KE
designator C?
Dipped Radial Multilayer Ceramic Capacitor X7R: 56nF, 500V; Published: 17-Dec-2003; DatasheetDocument: 2-Jan-2002; PackageDocument: 2-Jan-2002; PackageReference: VP44-3.2; Publisher: Altium Limited; ComponentLink1Description: Manufacturer Link; ComponentLink1URL: http://www.vishay.com/; Value: 56nF
footprint VP44-3.2 (Capacitor, Ceramic, Thru-Hole, Dipped Radial; Body 7.6 x 3.2 mm (WxT) Pin Spacing 5.08 mm (typ))
simulation model CAP (Capacitor)
signal-integrity model Cap
pins: 1, 2

## VP44BY563ME
designator C?
Dipped Radial Multilayer Ceramic Capacitor X7R: 56nF, 500V; Published: 17-Dec-2003; DatasheetDocument: 2-Jan-2002; PackageDocument: 2-Jan-2002; PackageReference: VP44-3.2; Publisher: Altium Limited; ComponentLink1Description: Manufacturer Link; ComponentLink1URL: http://www.vishay.com/; Value: 56nF
footprint VP44-3.2 (Capacitor, Ceramic, Thru-Hole, Dipped Radial; Body 7.6 x 3.2 mm (WxT) Pin Spacing 5.08 mm (typ))
simulation model CAP (Capacitor)
signal-integrity model Cap
pins: 1, 2

## VP44BY564JA
designator C?
Dipped Radial Multilayer Ceramic Capacitor X7R: 560nF, 50/63V; Published: 17-Dec-2003; DatasheetDocument: 4-Feb-2002; PackageDocument: 4-Feb-2002; PackageReference: VP44-2.5; Publisher: Altium Limited; ComponentLink1Description: Manufacturer Link; ComponentLink1URL: http://www.vishay.com/; Value: 560nF
footprint VP44-2.5 (Capacitor, Ceramic, Thru-Hole, Dipped Radial; Body 7.6 x 2.5 mm (WxT) Pin Spacing 5.08 mm (typ))
simulation model CAP (Capacitor)
signal-integrity model Cap
pins: 1, 2

## VP44BY564JB
designator C?
Dipped Radial Multilayer Ceramic Capacitor X7R: 560nF, 100V; Published: 17-Dec-2003; DatasheetDocument: 4-Feb-2002; PackageDocument: 4-Feb-2002; PackageReference: VP44-2.5; Publisher: Altium Limited; ComponentLink1Description: Manufacturer Link; ComponentLink1URL: http://www.vishay.com/; Value: 560nF
footprint VP44-2.5 (Capacitor, Ceramic, Thru-Hole, Dipped Radial; Body 7.6 x 2.5 mm (WxT) Pin Spacing 5.08 mm (typ))
simulation model CAP (Capacitor)
signal-integrity model Cap
pins: 1, 2

## VP44BY564JC
designator C?
Dipped Radial Multilayer Ceramic Capacitor X7R: 560nF, 200V; Published: 17-Dec-2003; DatasheetDocument: 2-Jan-2002; PackageDocument: 2-Jan-2002; PackageReference: VP44-5.0; Publisher: Altium Limited; ComponentLink1Description: Manufacturer Link; ComponentLink1URL: http://www.vishay.com/; Value: 560nF
footprint VP44-5.0 (Capacitor, Ceramic, Thru-Hole, Dipped Radial; Body 7.6 x 5 mm (WxT) Pin Spacing 5.08 mm (typ))
simulation model CAP (Capacitor)
signal-integrity model Cap
pins: 1, 2

## VP44BY564KA
designator C?
Dipped Radial Multilayer Ceramic Capacitor X7R: 560nF, 50/63V; Published: 17-Dec-2003; DatasheetDocument: 4-Feb-2002; PackageDocument: 4-Feb-2002; PackageReference: VP44-2.5; Publisher: Altium Limited; ComponentLink1Description: Manufacturer Link; ComponentLink1URL: http://www.vishay.com/; Value: 560nF
footprint VP44-2.5 (Capacitor, Ceramic, Thru-Hole, Dipped Radial; Body 7.6 x 2.5 mm (WxT) Pin Spacing 5.08 mm (typ))
simulation model CAP (Capacitor)
signal-integrity model Cap
pins: 1, 2

## VP44BY564KB
designator C?
Dipped Radial Multilayer Ceramic Capacitor X7R: 560nF, 100V; Published: 17-Dec-2003; DatasheetDocument: 4-Feb-2002; PackageDocument: 4-Feb-2002; PackageReference: VP44-2.5; Publisher: Altium Limited; ComponentLink1Description: Manufacturer Link; ComponentLink1URL: http://www.vishay.com/; Value: 560nF
footprint VP44-2.5 (Capacitor, Ceramic, Thru-Hole, Dipped Radial; Body 7.6 x 2.5 mm (WxT) Pin Spacing 5.08 mm (typ))
simulation model CAP (Capacitor)
signal-integrity model Cap
pins: 1, 2

## VP44BY564KC
designator C?
Dipped Radial Multilayer Ceramic Capacitor X7R: 560nF, 200V; Published: 17-Dec-2003; DatasheetDocument: 2-Jan-2002; PackageDocument: 2-Jan-2002; PackageReference: VP44-5.0; Publisher: Altium Limited; ComponentLink1Description: Manufacturer Link; ComponentLink1URL: http://www.vishay.com/; Value: 560nF
footprint VP44-5.0 (Capacitor, Ceramic, Thru-Hole, Dipped Radial; Body 7.6 x 5 mm (WxT) Pin Spacing 5.08 mm (typ))
simulation model CAP (Capacitor)
signal-integrity model Cap
pins: 1, 2

## VP44BY564MA
designator C?
Dipped Radial Multilayer Ceramic Capacitor X7R: 560nF, 50/63V; Published: 17-Dec-2003; DatasheetDocument: 4-Feb-2002; PackageDocument: 4-Feb-2002; PackageReference: VP44-2.5; Publisher: Altium Limited; ComponentLink1Description: Manufacturer Link; ComponentLink1URL: http://www.vishay.com/; Value: 560nF
footprint VP44-2.5 (Capacitor, Ceramic, Thru-Hole, Dipped Radial; Body 7.6 x 2.5 mm (WxT) Pin Spacing 5.08 mm (typ))
simulation model CAP (Capacitor)
signal-integrity model Cap
pins: 1, 2

## VP44BY564MB
designator C?
Dipped Radial Multilayer Ceramic Capacitor X7R: 560nF, 100V; Published: 17-Dec-2003; DatasheetDocument: 4-Feb-2002; PackageDocument: 4-Feb-2002; PackageReference: VP44-2.5; Publisher: Altium Limited; ComponentLink1Description: Manufacturer Link; ComponentLink1URL: http://www.vishay.com/; Value: 560nF
footprint VP44-2.5 (Capacitor, Ceramic, Thru-Hole, Dipped Radial; Body 7.6 x 2.5 mm (WxT) Pin Spacing 5.08 mm (typ))
simulation model CAP (Capacitor)
signal-integrity model Cap
pins: 1, 2

## VP44BY564MC
designator C?
Dipped Radial Multilayer Ceramic Capacitor X7R: 560nF, 200V; Published: 17-Dec-2003; DatasheetDocument: 2-Jan-2002; PackageDocument: 2-Jan-2002; PackageReference: VP44-5.0; Publisher: Altium Limited; ComponentLink1Description: Manufacturer Link; ComponentLink1URL: http://www.vishay.com/; Value: 560nF
footprint VP44-5.0 (Capacitor, Ceramic, Thru-Hole, Dipped Radial; Body 7.6 x 5 mm (WxT) Pin Spacing 5.08 mm (typ))
simulation model CAP (Capacitor)
signal-integrity model Cap
pins: 1, 2

## VP44BY683JE
designator C?
Dipped Radial Multilayer Ceramic Capacitor X7R: 68nF, 500V; Published: 17-Dec-2003; DatasheetDocument: 2-Jan-2002; PackageDocument: 2-Jan-2002; PackageReference: VP44-3.2; Publisher: Altium Limited; ComponentLink1Description: Manufacturer Link; ComponentLink1URL: http://www.vishay.com/; Value: 68nF
footprint VP44-3.2 (Capacitor, Ceramic, Thru-Hole, Dipped Radial; Body 7.6 x 3.2 mm (WxT) Pin Spacing 5.08 mm (typ))
simulation model CAP (Capacitor)
signal-integrity model Cap
pins: 1, 2